# EAGLE library part M08 (library header)
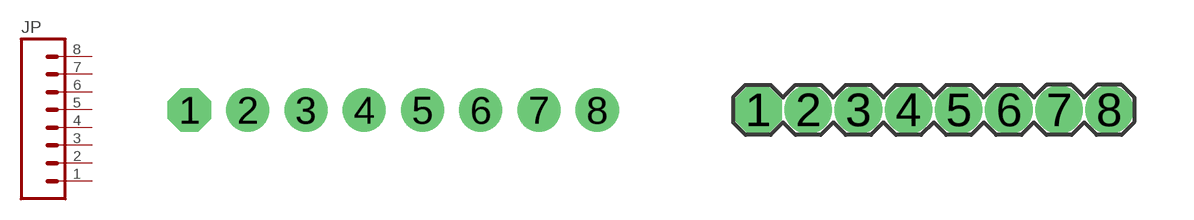
[diagram p1: symbol with the pads of 1X08-NOSILK; footprints 1X08-NOSILK, 1X08-1.27]

Designator prefix JP

## M08NOSILK  [1X08-NOSILK]
1  1  pas
2  2  pas
3  3  pas
4  4  pas
5  5  pas
6  6  pas
7  7  pas
8  8  pas

## M081.27  [1X08-1.27]
Pads as for 1X08-NOSILK

## M08STD  [1X08]
Pads as for 1X08-NOSILK

## M081.27-NOSILK  [1X08-1.27-NOSILK]
Pads as for 1X08-NOSILK

## M08NOSILK-NOMARK  [1X08-NOSILK-NOMARK]
Pads as for 1X08-NOSILK

## M08NOSILK-NOMARK-REDUCED  [1X08-NOSILK-NOMARK-REDUCED]
Pads as for 1X08-NOSILK

## Footprint 1X08-NOSILK (pad centres in mm)
drill 1.016 pad 1.88 octagon: 1 0,0
drill 1.016 pad 1.88: 2 2.54,0; 3 5.08,0; 4 7.62,0; 5 10.16,0; 6 12.7,0; 7 15.24,0; 8 17.78,0

## Footprint 1X08-1.27 (pad centres in mm)
drill 0.7 pad 1 octagon: 1 0,0
drill 0.7 pad 1: 2 1.27,0; 3 2.54,0; 4 3.81,0; 5 5.08,0; 6 6.35,0; 7 7.62,0; 8 8.89,0

## Footprint 1X08 (pad centres in mm)
drill 1.016 pad 1.88 octagon: 1 0,0
drill 1.016 pad 1.88: 2 2.54,0; 3 5.08,0; 4 7.62,0; 5 10.16,0; 6 12.7,0; 7 15.24,0; 8 17.78,0

## Footprint 1X08-1.27-NOSILK (pad centres in mm)
drill 0.7 pad 1 octagon: 1 0,0
drill 0.7 pad 1: 2 1.27,0; 3 2.54,0; 4 3.81,0; 5 5.08,0; 6 6.35,0; 7 7.62,0; 8 8.89,0

## Footprint 1X08-NOSILK-NOMARK (pad centres in mm)
drill 1 pad 1.778: 1 0,0; 2 2.54,0; 3 5.08,0; 4 7.62,0; 5 10.16,0; 6 12.7,0; 7 15.24,0; 8 17.78,0

## Footprint 1X08-NOSILK-NOMARK-REDUCED (pad centres in mm)
drill 0.9 pad 1.27: 1 0,0; 2 2.54,0; 3 5.08,0; 4 7.62,0; 5 10.16,0; 6 12.7,0; 7 15.24,0; 8 17.78,0